# Altium schematic symbol library Multicomp.SchLib: 19 symbols
Pins are listed as number, name and electrical type; pins without a type are passive.

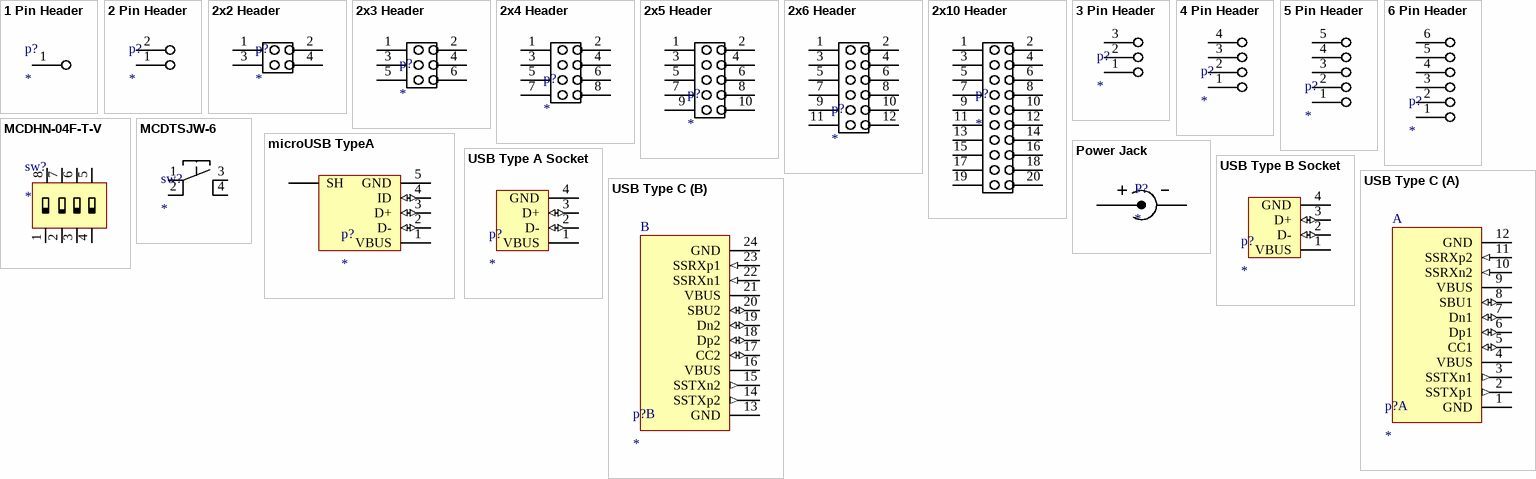
[diagram p0: symbols 1 Pin Header to USB Type C]

## 1 Pin Header
designator p?
1 Pin Header
footprint 1x1-HeaderPin (Single Header Pin)
pins: 1 "Header Pin"

## 2 Pin Header
designator p?
2 Pin Header
footprint 1x2-HeaderPin (1x2 Header Pin)
pins: 1 "Header Pin", 2 "Header Pin"

## 2x2 Header
designator p?
Header Pin
footprint 2x2-HeaderPin (2x2 Header Pin)
pins: 1 "Header Pin", 2 "Header Pin", 3 "Header Pin", 4 "Header Pin"

## 2x3 Header
designator p?
Header Pin
footprint 2x3-HeaderPin (2x3 Header Pin)
pins: 1 "Header Pin", 2 "Header Pin", 3 "Header Pin", 4 "Header Pin", 5 "Header Pin", 6 "Header Pin"

## 2x4 Header
designator p?
Header Pin
footprint 2x4-HeaderPin (2x4 Header Pin)
pins: 1 "Header Pin", 2 "Header Pin", 3 "Header Pin", 4 "Header Pin", 5 "Header Pin", 6 "Header Pin", 7 "Header Pin", 8 "Header Pin"

## 2x5 Header
designator p?
Header Pin
footprint 2x5-HeaderPin (2x5 Header Pin)
pins: 1 "Header Pin", 2 "Header Pin", 3 "Header Pin", 4 "Header Pin", 5 "Header Pin", 6 "Header Pin", 7 "Header Pin", 8 "Header Pin", 9 "Header Pin", 10 "Header Pin"

## 2x6 Header
designator p?
Header Pin
footprint 2x6-HeaderPin (2x6 Header Pin)
pins: 1 "Header Pin", 2 "Header Pin", 3 "Header Pin", 4 "Header Pin", 5 "Header Pin", 6 "Header Pin", 7 "Header Pin", 8 "Header Pin", 9 "Header Pin", 10 "Header Pin", 11 "Header Pin", 12 "Header Pin"

## 2x10 Header
designator p?
Header Pin
footprint 2x10-HeaderPin (2x10 Header Pin)
pins: 1 "Header Pin", 2 "Header Pin", 3 "Header Pin", 4 "Header Pin", 5 "Header Pin", 6 "Header Pin", 7 "Header Pin", 8 "Header Pin", 9 "Header Pin", 10 "Header Pin", 11 "Header Pin", 12 "Header Pin", 13 "Header Pin", 14 "Header Pin", 15 "Header Pin", 16 "Header Pin", 17 "Header Pin", 18 "Header Pin", 19 "Header Pin", 20 "Header Pin"

## 3 Pin Header
designator p?
Header Pin
footprint 1x3-HeaderPin (1x3 Header Pin)
pins: 1 "Header Pin", 2 "Header Pin", 3 "Header Pin"

## 4 Pin Header
designator p?
Header Pin
footprint 1x4-HeaderPin (1x4 Header Pin)
pins: 1 "Header Pin", 2 "Header Pin", 3 "Header Pin", 4 "Header Pin"

## 5 Pin Header
designator p?
Header Pin
footprint 1x5-HeaderPin - duplicate1 (1x5 Header Pin)
pins: 1 "Header Pin", 2 "Header Pin", 3 "Header Pin", 4 "Header Pin", 5 "Header Pin"

## 6 Pin Header
designator p?
Header Pin
footprint 1x6-HeaderPin (1x6 Header Pin)
pins: 1 "Header Pin", 2 "Header Pin", 3 "Header Pin", 4 "Header Pin", 5 "Header Pin", 6 "Header Pin"

## MCDHN-04F-T-V
designator sw?
Dipswitch 4 way
footprint Dipswitch-4 (pitch 1.27x6.15)
pins: 1, 2, 3, 4, 5, 6, 7, 8

## MCDTSJW-6
designator sw?
Push button
footprint MCDTSJW6 (SMD Push Switch)
pins: 1, 2, 3, 4

## microUSB TypeA
designator p?
MicroUSB TypeA Socket
pins: 1 VBUS (power) "Bus Power", 2 D- (io) "Differential Signal Negative", 3 D+ (io) "Differential Signal Positive", 4 ID (io) "Mode Detect", 5 GND (power) "Power Ground", 6 SH (power)

## Power Jack
designator P?
Power Jack
footprint Power Jack (6mm Jack plug)
pins: 1 V+ (power) "Power", 2 GND (power) "Power"

## USB Type A Socket
designator p?
USB Type A Socket
footprint Socket-USB-TypeA-SMD
footprint Socket-USB-TypeA-ThruHole
pins: 1 VBUS (power) "Power", 2 D- (io) "Differential Signal Negative", 3 D+ (io) "Differencial Signal Positive", 4 GND (power) "Power Ground"

## USB Type B Socket
designator p?
USB Type B Socket
footprint Socket-USB-TypeB-ThruHole
pins: 1 VBUS (power) "Power", 2 D- (io) "Differential Signal Negative", 3 D+ (io) "Differencial Signal Positive", 4 GND (power) "Power Ground"

## USB Type C
designator p?
USB type-C Socket
footprint Socket-USB-typeC
part A pins: 1 GND (power) "Ground return", 2 SSTXp1 (out) "SuperSpeed differential pair #1, TX, Positive", 3 SSTXn1 (out) "SuperSpeed differential pair #1, TX, negative", 4 VBUS (power) "Bus power", 5 CC1 (io) "Configuration channel", 6 Dp1 (io) "Non-SuperSpeed differential pair, position 1, positive", 7 Dn1 (io) "Non-SuperSpeed differential pair, position 1, negative", 8 SBU1 (io) "Sideband use", 9 VBUS "Bus Power", 10 SSRXn2 (in) "SuperSpeed differential pair #4, RX, negative", 11 SSRXp2 (in) "SuperSpeed differential pair #4, RX, positive", 12 GND (power) "Ground return"
part B pins: 13 GND (power) "Ground return", 14 SSTXp2 (out) "SuperSpeed differential pair #3, TX, positive", 15 SSTXn2 (out) "SuperSpeed differential pair #3, TX, negative", 16 VBUS (power) "Bus power", 17 CC2 (io) "Configuration channel", 18 Dp2 (io) "Non-SuperSpeed differential pair, position 2, positive", 19 Dn2 (io) "Non-SuperSpeed differential pair, position 2, negative", 20 SBU2 (io) "Sideband use", 21 VBUS "Bus power", 22 SSRXn1 (in) "SuperSpeed differential pair #2, RX, negative", 23 SSRXp1 (in) "SuperSpeed differential pair #2, RX, positive", 24 GND (power) "Ground return"
part A text: A
part B text: B